# EAGLE library part A4953-H-BRIDGE-MOTOR-DRIVER (library myFab)
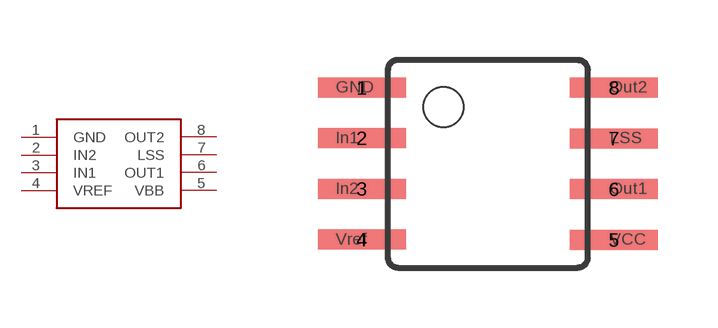
[diagram p0: symbol with the pads of H-BRIDGE-A4953; footprint H-BRIDGE-A4953]

Designator prefix -

## A4953-H-BRIDGE-MOTOR-DRIVER  [H-BRIDGE-A4953]
1  GND
2  IN2
3  IN1
4  VREF
5  VBB
6  OUT1
7  LSS
8  OUT2

## Footprint H-BRIDGE-A4953 (pad centres in mm)
Wide Plastic Gull Wing Small Outline Package
smd 2.2 x 0.5: 1 -4.424,3.175; 2 -4.424,1.915; 3 -4.424,0.645; 4 -4.424,-0.625; 5 1.884,-0.635; 6 1.884,0.635; 7 1.884,1.905; 8 1.884,3.175